# EAGLE library part ARDUINO_NANO (library talons-microcontrollers)
Arduino Nano http://arduino.cc/en/Main/ArduinoBoardNano
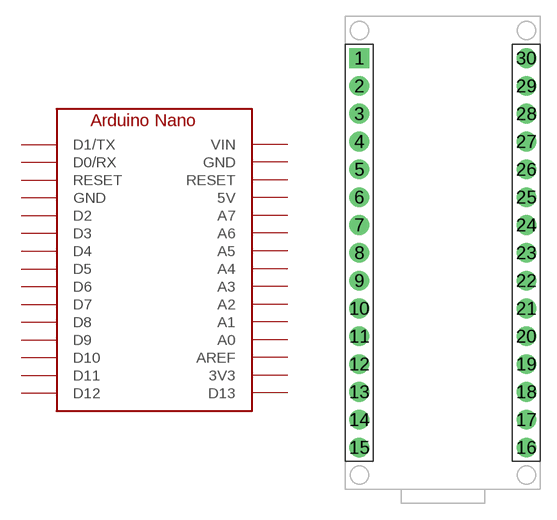
[diagram p0: symbol with the pads of ARDUINO_NANO_V3; footprint ARDUINO_NANO_V3]

Designator prefix -

## ARDUINO_NANO  [ARDUINO_NANO_V3]
1  D1/TX
2  D0/RX
3  RESET  in
4  GND  pwr
5  D2
6  D3
7  D4
8  D5
9  D6
10  D7
11  D8
12  D9
13  D10
14  D11
15  D12
16  D13
17  3V3  pwr
18  AREF  in
19  A0
20  A1
21  A2
22  A3
23  A4
24  A5
25  A6
26  A7
27  5V  pwr
28  RESET  in
29  GND  pwr
30  VIN  pwr

## Footprint ARDUINO_NANO_V3 (pad centres in mm)
drill 1.2 square: 1 -7.62,20.32
drill 1.2: 2 -7.62,17.78; 3 -7.62,15.24; 4 -7.62,12.7; 5 -7.62,10.16; 6 -7.62,7.62; 7 -7.62,5.08; 8 -7.62,2.54; 9 -7.62,0; 10 -7.62,-2.54; 11 -7.62,-5.08; 12 -7.62,-7.62; 13 -7.62,-10.16; 14 -7.62,-12.7; 15 -7.62,-15.24; 16 7.62,-15.24; 17 7.62,-12.7; 18 7.62,-10.16; 19 7.62,-7.62; 20 7.62,-5.08; 21 7.62,-2.54; 22 7.62,0; 23 7.62,2.54; 24 7.62,5.08; 25 7.62,7.62; 26 7.62,10.16; 27 7.62,12.7; 28 7.62,15.24; 29 7.62,17.78; 30 7.62,20.32